# Altium footprint library Intercom Gen2 Main PCB.PcbLib: 115 footprints (part 2 of 8)
Each footprint in its own frame and in the unit in brackets; x right, y up, seen from the top. Pads: shape width x height; smd on the part's side, far side on the other; paste and mask are expansions set on the pad; w line width, h text height; cw(c..) or ccw(c..) is an arc to the next point about the centre after c.
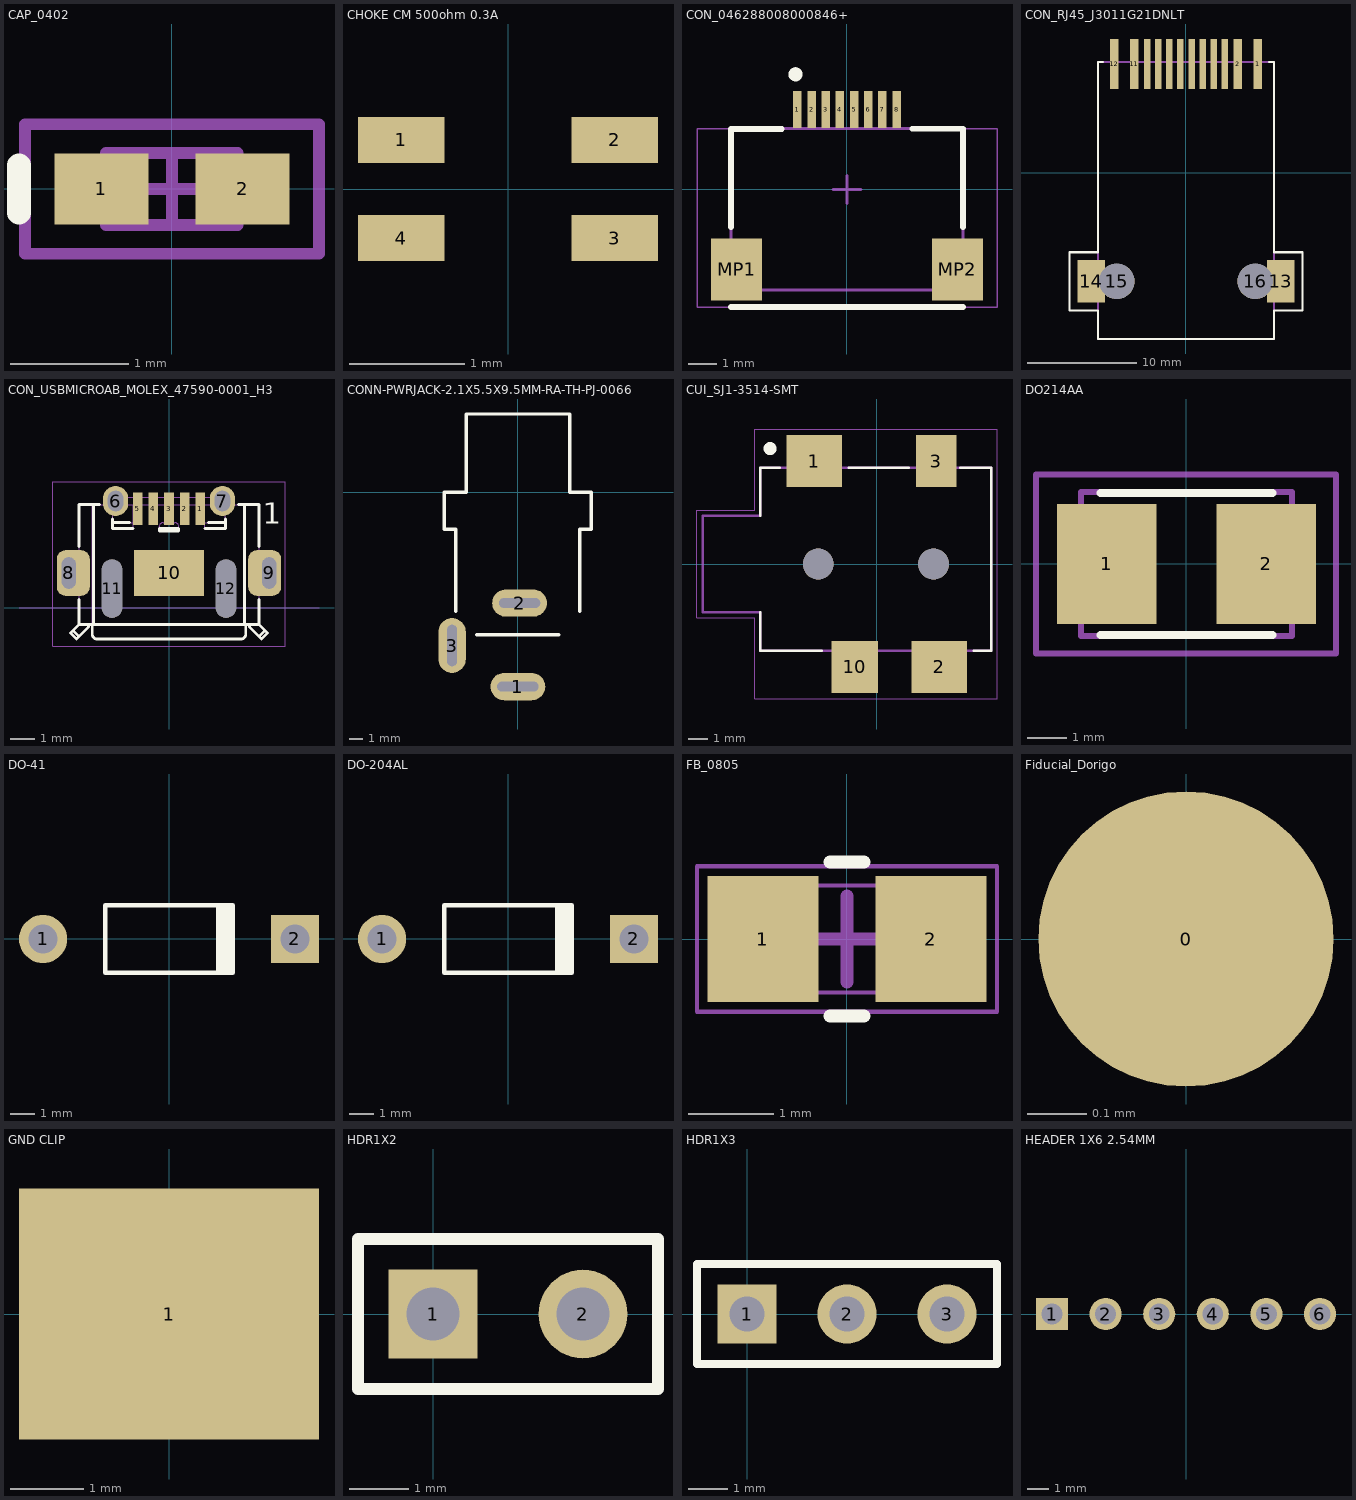
[diagram p1: the footprints below, top view; thin cyan lines are the x and y axes]

## CAP_0402 [mm]
height 0.64
pads (2):
  rect 0.8x0.6 smd: 1(-0.6,0) 2(0.6,0)
Top Overlay:
  lines w0.2: -1.3,-0.2 -1.3,0.2
Mechanical 13:
  lines w0.1: -0.56,-0.305 0.56,-0.305 0.56,0.305 -0.56,0.305 -0.56,-0.305
Mechanical 15:
  lines w0.1: -0.305,0 0.305,0 ; 0,-0.305 0,0.305 ; -1.25,-0.55 1.25,-0.55 1.25,0.55 -1.25,0.55 -1.25,-0.55
3D body: height 0.64, standoff 0, extent -0.56,-0.305 0.56,0.305

## CHOKE CM 500ohm 0.3A [mm]
pads (4):
  rect 0.75x0.4 smd paste-0.03: 1(-0.925,0.425) 2(0.925,0.425) 3(0.925,-0.425) 4(-0.925,-0.425)
3D body: height 1.4, standoff 0, extent -1.1,-0.7 1.1,0.7

## CON_046288008000846+ [mm] "Kyocera ZIF, 0.5mm, 8 contacts, bottom"
height 2
pads (10):
  rect 0.3x1.3 smd: 1(-1.75,2.825) 2(-1.25,2.825) 3(-0.75,2.825) 4(-0.25,2.825) 5(0.25,2.825) 6(0.75,2.825) 7(1.25,2.825) 8(1.75,2.825)
  rect 1.8x2.2 smd: MP1(-3.9,-2.825) MP2(3.9,-2.825)
Top Overlay:
  circle w0.25: c-1.82,4.07 r0.125
  lines w0.2: -4.1,-4.15 4.1,-4.15 ; -4.1,-1.325 -4.1,2.14 -2.3,2.14 ; 2.3,2.15 4.1,2.15 4.1,-1.325
Mechanical 13:
  lines w0.1: -4.1,-3.55 -4.1,2.15 4.1,2.15 4.1,-3.55 -4.1,-3.55
Mechanical 15:
  lines w0.05: -5.3,-4.16 5.3,-4.16 5.3,2.15 -5.3,2.15 -5.3,-4.16
  lines w0.1: -0.5,0 0.5,0 ; 0,-0.5 0,0.5
3D body: height 2, standoff 0, extent -4.1,-3.55 4.1,2.15

## CON_RJ45_J3011G21DNLT [mil] "Pulse J3 Series"
height 535.83
pads (16):
  rect 31.5x181.1 smd paste+0 mask+3.94: 1(259,392) 2(187,392) 11(-187,392) 12(-259,392)
  rect 23.62x181.1 smd paste+0 mask+3.94: 3(140,392) 4(100,392) 5(60,392) 6(20,392) 7(-20,392) 8(-60,392) 9(-100,392) 10(-140,392)
  rect 98.43x153.54 smd paste+0 mask+3.94: 13(342,-392) 14(-342,-392)
  round 128 hole 128 unplated mask-10: 15(-250,-392.01) 16(250,-392.01)
Top Overlay:
  lines w7.87: -300,400 -317,400 -317,-287 -420,-287 -420,-497 -317,-497 -317,-600 317,-600 317,-497 420,-497 420,-287 317,-287 317,400 300,400
Top Courtyard:
  region: 317,-442 371,-442 371,-343 317,-343
  region: -371,-443 -317,-443 -317,-344 -371,-344
  lines w7.87: -259,403 -259,463 ; -187,403 -187,463 ; -140,403 -140,463 ; -100,403 -100,463 ; -60,403 -60,463 ; -20,403 -20,463 ; 20,403 20,463 ; 60,403 60,463 ; 100,403 100,463 ; 140,403 140,463 ; 187,403 187,463 ; 259,403 259,463 ; -317,-600 -317,400 317,400 317,-600 -317,-600
3D body "J3011G21DNL_3D.STEP": height 567.71, standoff -50, extent -370.08,-600 370.08,452.93

## CON_USBMICROAB_MOLEX_47590-0001_H3 [mm]
height 3
pads (12):
  rect 0.4x1.35 smd mask+0.05: 1(1.3,4.125) 2(0.65,4.125) 3(0,4.125) 4(-0.65,4.125) 5(-1.3,4.125)
  oval 1.05x1.25 hole 0.65 slot 0.85 at 90 deg mask+0.05: 6(-2.225,4.45) 7(2.225,4.45)
  rrect50% 1.375x1.9 hole 0.6 slot 1.3 at 90 deg copper offset 0.188,0 mask+0.05: 8(-4.175,1.45)
  rrect50% 1.375x1.9 hole 0.6 slot 1.3 at 90 deg copper offset -0.188,0 mask+0.05: 9(4.175,1.45)
  rect 2.9x1.9 smd mask+0.05: 10(0,1.45)
  oval 0.85x2.425 hole 0.85 slot 2.425 at 90 deg unplated mask+0.1: 11(-2.375,0.8) 12(2.375,0.8)
Top Overlay:
  lines w0.12: -4,-0.95 -3.75,-1.2 ; -3.75,0.35 -3.75,-0.7 ; -3.75,2.55 -3.75,4.3 -2.9,4.3 ; -3.35,-0.7 -3.35,-0.8 -3.85,-1.3 -4.1,-1.05 -3.75,-0.7 ; -3.2,-0.7 -3.2,-1.1 ccw(c-3,-1.1) -3,-1.3 3,-1.3 ccw(c3,-1.1) 3.2,-1.1 3.2,-0.7 ; -3.15,-0.7 -3.15,0.25 -3.15,4.3 ; -2.35,3.55 -1.65,3.55 ; -2.35,3.7 -2.35,3.3 -1.5,3.3 ; 1.5,3.3 2.35,3.3 2.35,3.7 ; 1.65,3.55 2.35,3.55 ; 2.9,4.3 3.75,4.3 3.75,2.55 ; 3.15,-0.7 3.15,4.3 ; 3.35,-0.7 3.35,-0.8 3.85,-1.3 4.1,-1.05 3.75,-0.7 ; 3.75,-1.2 4,-0.95 ; 3.75,0.35 3.75,-0.7 ; -3.75,-0.7 3.75,-0.7 ; -0.4,3.2 -0.4,3.3 0.4,3.3 0.4,3.2 -0.4,3.2
  text "1" at 3.902,3.211 h1.5
Bottom 3D Body:
  lines w0.01: -6.25,0 6.25,0
  text "EDGE" at 4.425,-0.55 h0.75
  text "PCB" at -6.225,-0.55 h0.75
Mechanical 14:
  lines w0.01: -4,-0.95 -3.75,-1.2 ; -3.9,0.8 -3.9,2.1 ; -3.75,0.8 -4.4,0.8 -4.4,2.1 -3.75,2.1 ; -3.35,-0.7 -3.35,-0.8 -3.85,-1.3 -4.1,-1.05 -3.75,-0.7 ; -3.2,4.3 -3.2,-0.7 -3.2,-1.1 ccw(c-3,-1.1) -3,-1.3 ; -2.5,4.3 -2.5,4.6 -1.57,4.6 2.5,4.6 2.5,4.3 ; -2.35,3.55 -1.5,3.55 ; -2.35,4.3 -2.35,3.3 -1.5,3.3 -1.5,4.3 ; -1.45,4.6 -1.45,4.75 -1.15,4.75 -1.15,4.6 ; -0.8,4.6 -0.8,4.75 -0.5,4.75 -0.5,4.6 ; -0.4,3.3 0.4,3.3 ; -0.15,4.6 -0.15,4.75 0.15,4.75 0.15,4.6 ; 0.5,4.6 0.5,4.75 0.8,4.75 0.8,4.6 ; 1.15,4.6 1.15,4.75 1.45,4.75 1.45,4.6 ; 1.5,3.55 2.35,3.55 ; 1.5,4.3 1.5,3.3 2.35,3.3 2.35,4.3 ; 3.35,-0.7 3.35,-0.8 3.85,-1.3 4.1,-1.05 ; 3.75,-1.2 4,-0.95 ; 3.75,0.8 4.4,0.8 4.4,2.1 3.75,2.1 ; 3.9,0.8 3.9,2.1 ; -3.75,-0.7 3.75,-0.7 ; -3.75,-0.7 -3.75,4.3 3.75,4.3 3.75,-0.7 ; -3,-1.3 3,-1.3 ccw(c3,-1.1) 3.2,-1.1 3.2,-0.7 ; -3,-1.3 -3,-1.3 ; -3,-1.3 -3,-1.3 ; -0.4,3.2 -0.4,3.375 cw(c-0.238,3.387) -0.25,3.55 0.25,3.55 cw(c0.238,3.387) 0.4,3.375 0.4,3.2 ; -0.4,3.2 0.4,3.2 ; -0.4,3.2 0.4,3.2 ; 3.2,-0.7 3.2,4.3 ; 3.2,-0.7 3.2,-0.7 ; 3.2,-0.7 3.2,-0.7 ; 3.2,4.3 3.2,4.3 ; 3.75,-0.7 4.1,-1.05 ; 4,-0.95 4.1,-1.05 ; 4,-0.95 4.1,-1.05
  text "'.Designator'" at -2,2 h0.75
  text "1" at 1.175,3.625 h1
  text "5" at -1.525,3.625 h1
Mechanical 16:
  lines w0.01: -4.85,-1.6 -3.1,-1.6 4.85,-1.6 4.85,5.25 -2.2,5.25 -4.85,5.25 -4.85,-1.6
3D body: height 3, standoff 0, extent -2.499,4.301 2.499,4.599
3D body "MOLEX_47590-0001.stp": height 2.72, standoff -0.64, extent -4.325,-1.3 4.325,4.6
3D body: height 3, standoff 0, extent -4.16,-1.36 4.16,4.36

## CONN-PWRJACK-2.1X5.5X9.5MM-RA-TH-PJ-0066 [mm] "Right Angle Power Jack"
height 14.275
pads (3):
  oval 4x2 hole 0.7 slot 3 at 0 deg: 1(0,-14.2) 2(0.127,-8.1)
  oval 2x4 hole 0.7 slot 3 at 90 deg: 3(-4.8,-11.2)
Top Overlay:
  lines w0.254: -4.521,-8.687 -4.521,-2.7 -5.359,-2.7 -5.359,0 -3.785,0 -3.785,5.7 0,5.7 3.784,5.7 3.784,0 5.359,0 5.359,-2.7 4.521,-2.7 4.521,-8.687 ; -3,-10.4 0,-10.4 3,-10.4
3D body "pj-066a.stp": height 12.11, standoff -2.99, extent -5.5,-14.35 5.5,5.7

## CUI_SJ1-3514-SMT [mm] "CONN JACK STEREO 3.5MM SMD R/A"
pads (6):
  rect 2.9x2.7 smd: 1(-3.25,5.35) 2(3.25,-5.35)
  rect 2.1x2.7 smd: 3(3.1,5.35)
  rect 2.4x2.7 smd: 10(-1.15,-5.35)
  round 1.6 hole 1.6 unplated: ""(-3.05,0) ""(2.95,0)
Top Overlay:
  circle w0.34: c-5.55,6 r0.17
  lines w0.127: -6.05,-2.5 -6.05,-4.5 -2.85,-4.5 ; -6.05,2.5 -6.05,5 -5.05,5 ; -1.45,5 1.65,5 ; 4.35,5 5.95,5 5.95,-4.5 5.05,-4.5
Mechanical 13:
  lines w0.127: -9.05,-2.5 -6.05,-2.5 -6.05,-4.5 5.95,-4.5 5.95,5 -6.05,5 -6.05,2.5 -9.05,2.5 -9.05,-2.5
Mechanical 15:
  lines w0.05: -9.35,-2.8 -6.35,-2.8 -6.35,-7 6.25,-7 6.25,7 -6.35,7 -6.35,2.8 -9.35,2.8 -9.35,-2.8
3D body "CUI_DEVICES_SJ1-3514-SMT-TR.sldprt": height 5.06, standoff -0.94, extent -9.05,-6 5.95,6

## DO214AA [mm] "DO214AA"
pads (2):
  rect 2.5x3 smd: 1(-2,0) 2(2,0)
Top Overlay:
  lines w0.203: -2.16,-1.78 2.16,-1.78 ; -2.16,1.78 2.16,1.78
Mechanical 13:
  lines w0.15: -2.648,-1.81 -2.648,1.81 2.647,1.81 2.647,-1.81 -2.648,-1.81
Mechanical 15:
  lines w0.15: -3.775,-2.25 3.75,-2.25 3.75,2.25 -3.775,2.25 -3.775,-2.25
3D body "SMB.step": height 2.51, standoff 0.01, extent -2.648,-1.81 2.647,1.81

## DO-41 [mm] "Diode, Axial; Body 5.2 x 2.7 mm (LxDia. max), Lead Dia. 0.86 mm (max)"
height 2.8
pads (2):
  round 2 hole 1.2: 1(-5.23,0)
  rect 2x2 hole 1.2: 2(5.23,0)
Top Overlay:
  rectangle: 1.95,-1.4 2.75,1.4
  lines w0.2: 2.65,-1.4 -2.65,-1.4 -2.65,1.4 2.65,1.4
3D body: height 2.96, standoff 0, extent -2.645,-1.482 1.955,1.482
3D body: height 2.96, standoff 0, extent 1.955,-1.482 2.655,1.482

## DO-204AL [mm] "Diode, Axial; Body 5.2 x 2.7 mm (LxDia. max), Lead Dia. 0.86 mm (max)"
height 2.7
pads (2):
  round 2 hole 1.2: 1(-5.23,0)
  rect 2x2 hole 1.2: 2(5.23,0)
Top Overlay:
  rectangle: 1.95,-1.4 2.75,1.4
  lines w0.2: 2.65,-1.4 -2.65,-1.4 -2.65,1.4 2.65,1.4
3D body: height 3.09, standoff 0, extent 2.65,-1.547 3.35,1.547
3D body: height 3.09, standoff 0, extent -3.35,-1.55 2.65,1.544

## FB_0805 [mm] "Designed for MI0805M221R-10, Maximum density courtyard. Datasheet:https://www.laird.com/sites/default/files/mi0805m221r-10-datasheet.pdf"
height 0.6
pads (2):
  rect 1.29x1.47 smd: 1(-0.98,0) 2(0.98,0)
Top Overlay:
  lines w0.15: -0.2,-0.9 0.2,-0.9 ; -0.2,0.9 0.2,0.9
Top Assembly:
  lines w0.05: -1,-0.625 1,-0.625 1,0.625 -1,0.625 -1,-0.625
  text ".designator" at -2.499,-0.167 h0.5
Top Courtyard:
  lines w0.05: -1.75,-0.85 1.75,-0.85 1.75,0.85 -1.75,0.85 -1.75,-0.85
  lines w0.15: -0.5,0 0.5,0 ; 0,-0.5 0,0.5
3D body "IND_MI0805M221R-10_LRD.step": height 1.09, standoff 0, extent -1.105,-0.724 1.105,0.724

## Fiducial_Dorigo [mm] "0.5mm diameter + 0.5mm solder mask clearance"
pads (1):
  round 0.5 smd paste-0.5 mask+0.5: 0(0,0)

## GND CLIP [mm] "GND Test Point"
pads (1):
  rect 4.1x3.43 smd: 1(0,0)
3D body "5016--3DModel-STEP-56544.STEP": height 2.29, standoff 0, extent -1.905,-1.422 1.905,1.422

## HDR1X2 [mm] "Connector; Header; 2 Position"
height 2.54
pads (2):
  rect 1.5x1.5 hole 0.9: 1(0,0)
  round 1.5 hole 0.9: 2(2.54,0)
Top Overlay:
  lines w0.2: -1.27,-1.27 -1.27,1.27 3.81,1.27 3.81,-1.27 -1.27,-1.27

## HDR1X3 [mm] "Connector; Header; 3 Position"
pads (3):
  rect 1.5x1.5 hole 0.9: 1(0,0)
  round 1.5 hole 0.9: 2(2.54,0) 3(5.08,0)
Top Overlay:
  lines w0.2: -1.27,-1.27 -1.27,1.27 6.35,1.27 6.35,-1.27 -1.27,-1.27

## HEADER 1X6 2.54MM [mil]
pads (6):
  rect 60x60 hole 38.98 mask+0: 1(-250,0)
  round 60 hole 38.98 mask+0: 2(-150,0) 3(-50,0) 4(50,0) 5(150,0) 6(250,0)